# EAGLE library part IS31FL3733 (library IS31fl3733)
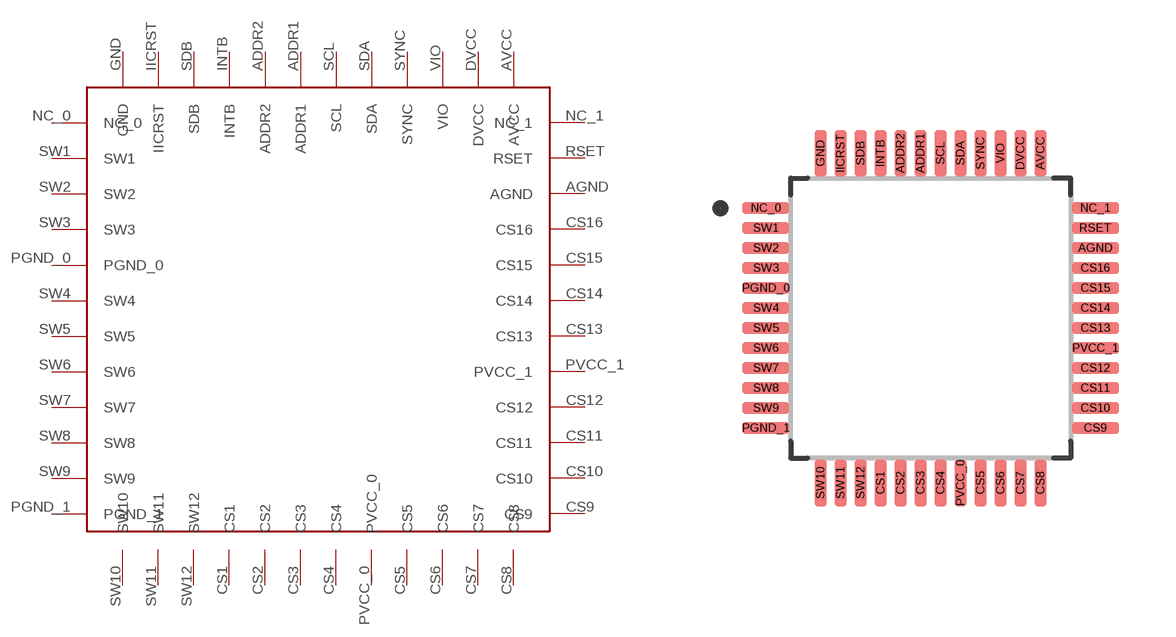
[diagram p0: symbol with the pads of TQFP-48; footprint TQFP-48]

Designator prefix -

## IS31FL3733  [TQFP-48]
ADDR1  ADDR1
ADDR2  ADDR2
AGND  AGND
AVCC  AVCC
CS1  CS1
CS2  CS2
CS3  CS3
CS4  CS4
CS5  CS5
CS6  CS6
CS7  CS7
CS8  CS8
CS9  CS9
CS10  CS10
CS11  CS11
CS12  CS12
CS13  CS13
CS14  CS14
CS15  CS15
CS16  CS16
DVCC  DVCC
GND  GND
IICRST  IICRST
INTB  INTB
NC_0  NC_0
NC_1  NC_1
PGND_0  PGND_0
PGND_1  PGND_1
PVCC_0  PVCC_0
PVCC_1  PVCC_1
RSET  RSET
SCL  SCL
SDA  SDA
SDB  SDB
SW1  SW1
SW2  SW2
SW3  SW3
SW4  SW4
SW5  SW5
SW6  SW6
SW7  SW7
SW8  SW8
SW9  SW9
SW10  SW10
SW11  SW11
SW12  SW12
SYNC  SYNC
VIO  VIO

## Footprint TQFP-48 (pad centres in mm)
Quad Flat Pack (QFP), 0.50 mm pitch; square, 12 pin X 12 pin, 7.00 mm L X 7.00 mm W X 1.20 mm H body PCB Libraries Packages
smd 0.3 x 1.17: ADDR1 -0.25,4.12; ADDR2 -0.75,4.12; AVCC 2.75,4.12; CS1 -1.25,-4.12; CS2 -0.75,-4.12; CS3 -0.25,-4.12; CS4 0.25,-4.12; CS5 1.25,-4.12; CS6 1.75,-4.12; CS7 2.25,-4.12; CS8 2.75,-4.12; DVCC 2.25,4.12; GND -2.75,4.12; IICRST -2.25,4.12; INTB -1.25,4.12; PVCC_0 0.75,-4.12; SCL 0.25,4.12; SDA 0.75,4.12; SDB -1.75,4.12; SW10 -2.75,-4.12; SW11 -2.25,-4.12; SW12 -1.75,-4.12; SYNC 1.25,4.12; VIO 1.75,4.12
smd 1.17 x 0.3: AGND 4.12,1.75; CS9 4.12,-2.75; CS10 4.12,-2.25; CS11 4.12,-1.75; CS12 4.12,-1.25; CS13 4.12,-0.25; CS14 4.12,0.25; CS15 4.12,0.75; CS16 4.12,1.25; NC_0 -4.12,2.75; NC_1 4.12,2.75; PGND_0 -4.12,0.75; PGND_1 -4.12,-2.75; PVCC_1 4.12,-0.75; RSET 4.12,2.25; SW1 -4.12,2.25; SW2 -4.12,1.75; SW3 -4.12,1.25; SW4 -4.12,0.25; SW5 -4.12,-0.25; SW6 -4.12,-0.75; SW7 -4.12,-1.25; SW8 -4.12,-1.75; SW9 -4.12,-2.25